# EAGLE library part MITY_ARM-335X (library work)
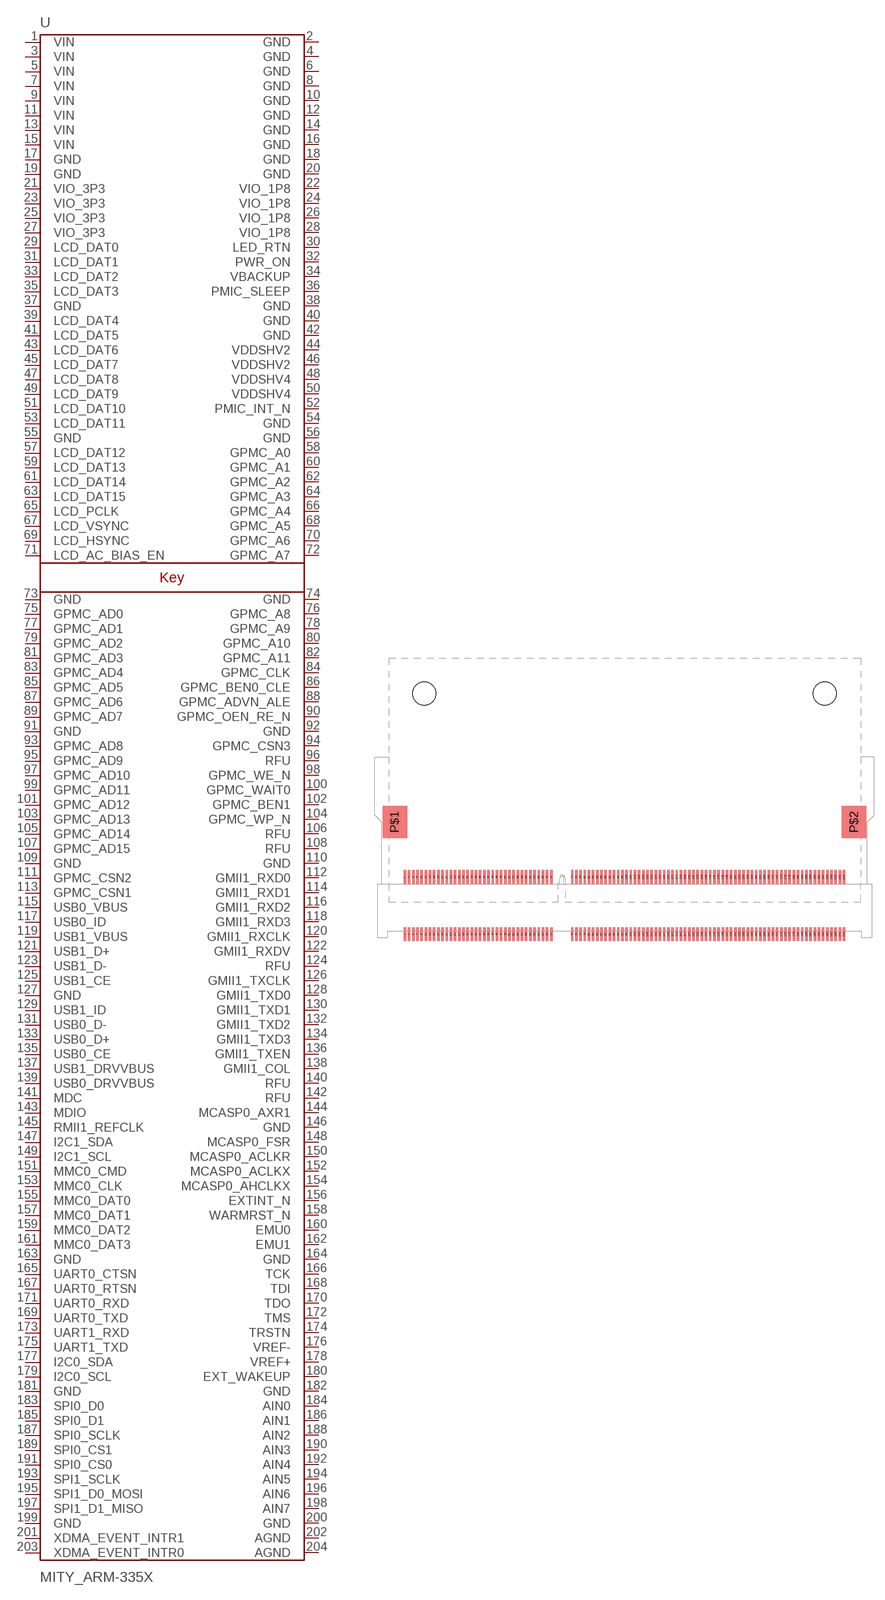
[diagram p41: symbol with the pads of MITY_ARM-335X-SOCKET; footprint MITY_ARM-335X-SOCKET]

Designator prefix U

## MITY_ARM-335X  [MITY_ARM-335X-SOCKET]
1  VIN
2  GND
3  VIN
4  GND
5  VIN
6  GND
7  VIN
8  GND
9  VIN
10  GND
11  VIN
12  GND
13  VIN
14  GND
15  VIN
16  GND
17  GND
18  GND
19  GND
20  GND
21  VIO_3P3
22  VIO_1P8
23  VIO_3P3
24  VIO_1P8
25  VIO_3P3
26  VIO_1P8
27  VIO_3P3
28  VIO_1P8
29  LCD_DAT0
30  LED_RTN
31  LCD_DAT1
32  PWR_ON
33  LCD_DAT2
34  VBACKUP
35  LCD_DAT3
36  PMIC_SLEEP
37  GND
38  GND
39  LCD_DAT4
40  GND
41  LCD_DAT5
42  GND
43  LCD_DAT6
44  VDDSHV2
45  LCD_DAT7
46  VDDSHV2
47  LCD_DAT8
48  VDDSHV4
49  LCD_DAT9
50  VDDSHV4
51  LCD_DAT10
52  PMIC_INT_N
53  LCD_DAT11
54  GND
55  GND
56  GND
57  LCD_DAT12
58  GPMC_A0
59  LCD_DAT13
60  GPMC_A1
61  LCD_DAT14
62  GPMC_A2
63  LCD_DAT15
64  GPMC_A3
65  LCD_PCLK
66  GPMC_A4
67  LCD_VSYNC
68  GPMC_A5
69  LCD_HSYNC
70  GPMC_A6
71  LCD_AC_BIAS_EN
72  GPMC_A7
73  GND
74  GND
75  GPMC_AD0
76  GPMC_A8
77  GPMC_AD1
78  GPMC_A9
79  GPMC_AD2
80  GPMC_A10
81  GPMC_AD3
82  GPMC_A11
83  GPMC_AD4
84  GPMC_CLK
85  GPMC_AD5
86  GPMC_BEN0_CLE
87  GPMC_AD6
88  GPMC_ADVN_ALE
89  GPMC_AD7
90  GPMC_OEN_RE_N
91  GND
92  GND
93  GPMC_AD8
94  GPMC_CSN3
95  GPMC_AD9
96  RFU
97  GPMC_AD10
98  GPMC_WE_N
99  GPMC_AD11
100  GPMC_WAIT0
101  GPMC_AD12
102  GPMC_BEN1
103  GPMC_AD13
104  GPMC_WP_N
105  GPMC_AD14
106  RFU
107  GPMC_AD15
108  RFU
109  GND
110  GND
111  GPMC_CSN2
112  GMII1_RXD0
113  GPMC_CSN1
114  GMII1_RXD1
115  USB0_VBUS
116  GMII1_RXD2
117  USB0_ID
118  GMII1_RXD3
119  USB1_VBUS
120  GMII1_RXCLK
121  USB1_D+
122  GMII1_RXDV
123  USB1_D-
124  RFU
125  USB1_CE
126  GMII1_TXCLK
127  GND
128  GMII1_TXD0
129  USB1_ID
130  GMII1_TXD1
131  USB0_D-
132  GMII1_TXD2
133  USB0_D+
134  GMII1_TXD3
135  USB0_CE
136  GMII1_TXEN
137  USB1_DRVVBUS
138  GMII1_COL
139  USB0_DRVVBUS
140  RFU
141  MDC
142  RFU
143  MDIO
144  MCASP0_AXR1
145  RMII1_REFCLK
146  GND
147  I2C1_SDA
148  MCASP0_FSR
149  I2C1_SCL
150  MCASP0_ACLKR
151  MMC0_CMD
152  MCASP0_ACLKX
153  MMC0_CLK
154  MCASP0_AHCLKX
155  MMC0_DAT0
156  EXTINT_N
157  MMC0_DAT1
158  WARMRST_N
159  MMC0_DAT2
160  EMU0
161  MMC0_DAT3
162  EMU1
163  GND
164  GND
165  UART0_CTSN
166  TCK
167  UART0_RTSN
168  TDI
169  UART0_TXD
170  TDO
171  UART0_RXD
172  TMS
173  UART1_RXD
174  TRSTN
175  UART1_TXD
176  VREF-
177  I2C0_SDA
178  VREF+
179  I2C0_SCL
180  EXT_WAKEUP
181  GND
182  GND
183  SPI0_D0
184  AIN0
185  SPI0_D1
186  AIN1
187  SPI0_SCLK
188  AIN2
189  SPI0_CS1
190  AIN3
191  SPI0_CS0
192  AIN4
193  SPI1_SCLK
194  AIN5
195  SPI1_D0_MOSI
196  AIN6
197  SPI1_D1_MISO
198  AIN7
199  GND
200  GND
201  XDMA_EVENT_INTR1
202  AGND
203  XDMA_EVENT_INTR0
204  AGND

## Footprint MITY_ARM-335X-SOCKET (pad centres in mm)
smd 0.35 x 2: 1 -31.5,-4.1; 2 -31.5,4.1; 3 -30.9,-4.1; 4 -30.9,4.1; 5 -30.3,-4.1; 6 -30.3,4.1; 7 -29.7,-4.1; 8 -29.7,4.1; 9 -29.1,-4.1; 10 -29.1,4.1; 11 -28.5,-4.1; 12 -28.5,4.1; 13 -27.9,-4.1; 14 -27.9,4.1; 15 -27.3,-4.1; 16 -27.3,4.1; 17 -26.7,-4.1; 18 -26.7,4.1; 19 -26.1,-4.1; 20 -26.1,4.1; 21 -25.5,-4.1; 22 -25.5,4.1; 23 -24.9,-4.1; 24 -24.9,4.1; 25 -24.3,-4.1; 26 -24.3,4.1; 27 -23.7,-4.1; 28 -23.7,4.1; 29 -23.1,-4.1; 30 -23.1,4.1; 31 -22.5,-4.1; 32 -22.5,4.1; 33 -21.9,-4.1; 34 -21.9,4.1; 35 -21.3,-4.1; 36 -21.3,4.1; 37 -20.7,-4.1; 38 -20.7,4.1; 39 -20.1,-4.1; 40 -20.1,4.1; 41 -19.5,-4.1; 42 -19.5,4.1; 43 -18.9,-4.1; 44 -18.9,4.1; 45 -18.3,-4.1; 46 -18.3,4.1; 47 -17.7,-4.1; 48 -17.7,4.1; 49 -17.1,-4.1; 50 -17.1,4.1; 51 -16.5,-4.1; 52 -16.5,4.1; 53 -15.9,-4.1; 54 -15.9,4.1; 55 -15.3,-4.1; 56 -15.3,4.1; 57 -14.7,-4.1; 58 -14.7,4.1; 59 -14.1,-4.1; 60 -14.1,4.1; 61 -13.5,-4.1; 62 -13.5,4.1; 63 -12.9,-4.1; 64 -12.9,4.1; 65 -12.3,-4.1; 66 -12.3,4.1; 67 -11.7,-4.1; 68 -11.7,4.1; 69 -11.1,-4.1; 70 -11.1,4.1; 71 -10.5,-4.1; 72 -10.5,4.1; 73 -7.5,-4.1; 74 -7.5,4.1; 75 -6.9,-4.1; 76 -6.9,4.1; 77 -6.3,-4.1; 78 -6.3,4.1; 79 -5.7,-4.1; 80 -5.7,4.1; 81 -5.1,-4.1; 82 -5.1,4.1; 83 -4.5,-4.1; 84 -4.5,4.1; 85 -3.9,-4.1; 86 -3.9,4.1; 87 -3.3,-4.1; 88 -3.3,4.1; 89 -2.7,-4.1; 90 -2.7,4.1; 91 -2.1,-4.1; 92 -2.1,4.1; 93 -1.5,-4.1; 94 -1.5,4.1; 95 -0.9,-4.1; 96 -0.9,4.1; 97 -0.3,-4.1; 98 -0.3,4.1; 99 0.3,-4.1; 100 0.3,4.1; 101 0.9,-4.1; 102 0.9,4.1; 103 1.5,-4.1; 104 1.5,4.1; 105 2.1,-4.1; 106 2.1,4.1; 107 2.7,-4.1; 108 2.7,4.1; 109 3.3,-4.1; 110 3.3,4.1; 111 3.9,-4.1; 112 3.9,4.1; 113 4.5,-4.1; 114 4.5,4.1; 115 5.1,-4.1; 116 5.1,4.1; 117 5.7,-4.1; 118 5.7,4.1; 119 6.3,-4.1; 120 6.3,4.1; 121 6.9,-4.1; 122 6.9,4.1; 123 7.5,-4.1; 124 7.5,4.1; 125 8.1,-4.1; 126 8.1,4.1; 127 8.7,-4.1; 128 8.7,4.1; 129 9.3,-4.1; 130 9.3,4.1; 131 9.9,-4.1; 132 9.9,4.1; 133 10.5,-4.1; 134 10.5,4.1; 135 11.1,-4.1; 136 11.1,4.1; 137 11.7,-4.1; 138 11.7,4.1; 139 12.3,-4.1; 140 12.3,4.1; 141 12.9,-4.1; 142 12.9,4.1; 143 13.5,-4.1; 144 13.5,4.1; 145 14.1,-4.1; 146 14.1,4.1; 147 14.7,-4.1; 148 14.7,4.1; 149 15.3,-4.1; 150 15.3,4.1; 151 15.9,-4.1; 152 15.9,4.1; 153 16.5,-4.1; 154 16.5,4.1; 155 17.1,-4.1; 156 17.1,4.1; 157 17.7,-4.1; 158 17.7,4.1; 159 18.3,-4.1; 160 18.3,4.1; 161 18.9,-4.1; 162 18.9,4.1; 163 19.5,-4.1; 164 19.5,4.1; 165 20.1,-4.1; 166 20.1,4.1; 167 20.7,-4.1; 168 20.7,4.1; 169 21.3,-4.1; 170 21.3,4.1; 171 21.9,-4.1; 172 21.9,4.1; 173 22.5,-4.1; 174 22.5,4.1; 175 23.1,-4.1; 176 23.1,4.1; 177 23.7,-4.1; 178 23.7,4.1; 179 24.3,-4.1; 180 24.3,4.1; 181 24.9,-4.1; 182 24.9,4.1; 183 25.5,-4.1; 184 25.5,4.1; 185 26.1,-4.1; 186 26.1,4.1; 187 26.7,-4.1; 188 26.7,4.1; 189 27.3,-4.1; 190 27.3,4.1; 191 27.9,-4.1; 192 27.9,4.1; 193 28.5,-4.1; 194 28.5,4.1; 195 29.1,-4.1; 196 29.1,4.1; 197 29.7,-4.1; 198 29.7,4.1; 199 30.3,-4.1; 200 30.3,4.1; 201 30.9,-4.1; 202 30.9,4.1; 203 31.5,-4.1; 204 31.5,4.1
smd 3.5 x 4.6: P$1 -32.95,12; P$2 32.95,12
hole 3.3 at -28.72,30.42
hole 3.3 at 28.72,30.42